# Altium footprint library 220v-12v.PcbLib: 7 footprints
Each footprint in its own frame and in the unit in brackets; x right, y up, seen from the top. Pads: shape width x height; smd on the part's side, far side on the other; paste and mask are expansions set on the pad; w line width, h text height; cw(c..) or ccw(c..) is an arc to the next point about the centre after c.
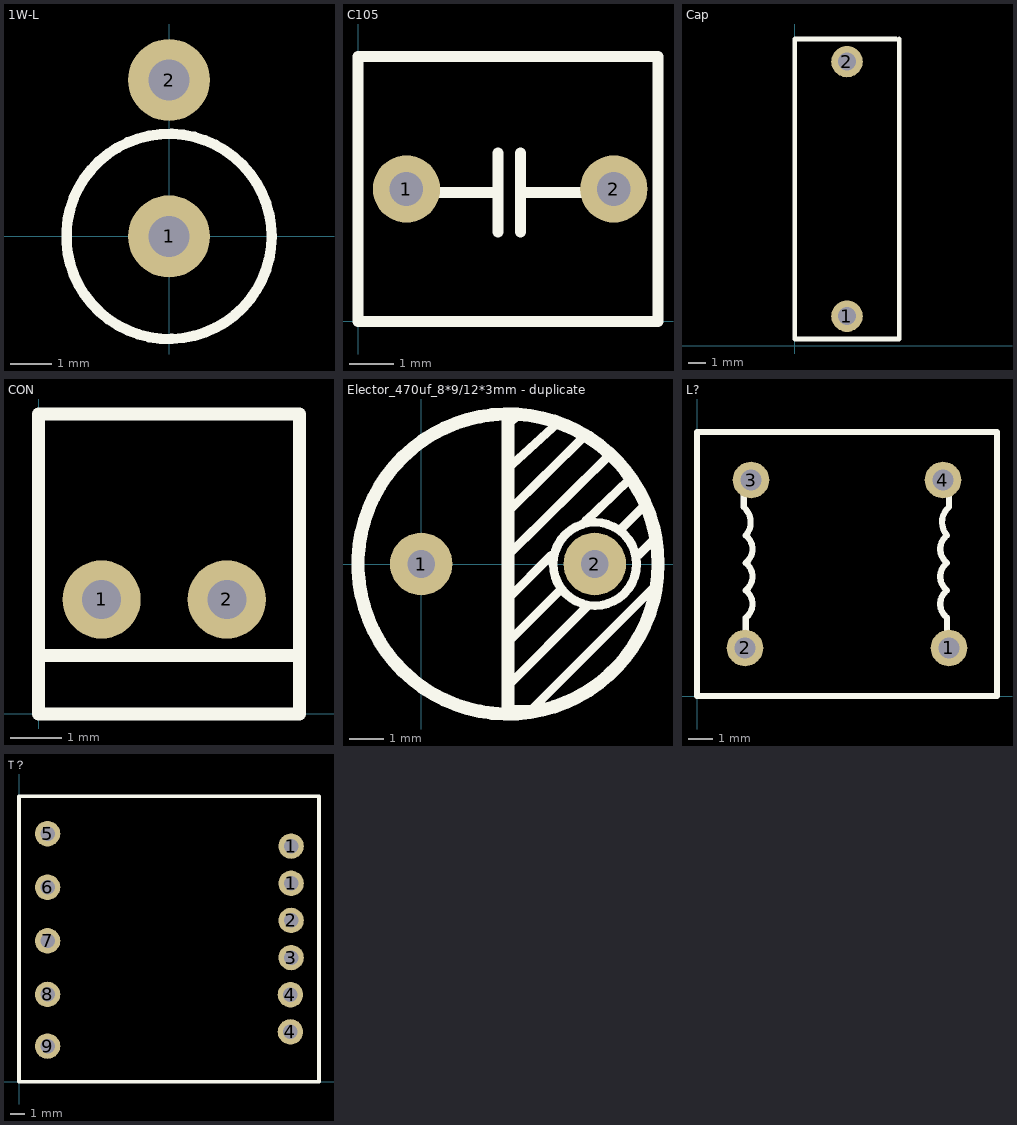
[diagram p0: the footprints below, top view; thin cyan lines are the x and y axes]

## 1W-L [mm]
pads (2):
  round 2 hole 1: 1(0,0) 2(0,3.81)
Top Overlay:
  circle w0.254: c0,0 r2.5

## C105 [mil] "C?"
pads (2):
  round 60 hole 30: 1(43.23,118.11) 2(228.27,118.11)
Top Overlay:
  lines w10: 65,115 125,115 ; 125,80 125,150 ; 145,80 145,150 ; 150,115 205,115 ; 0,0 0,236.22 267.72,236.22 267.72,0 0,0

## Cap [mil] "矫正电容"
pads (2):
  round 70 hole 40: 1(116.14,65.75) 2(116.14,629.92)
Top Overlay:
  lines w10: 225,680 0,680 0,15 232.28,15 232.28,680

## CON [mil]
pads (2):
  round 60 hole 30: 1(48.31,87.8) 2(144.37,87.8)
Top Overlay:
  lines w10: 0,45 200,45 ; 0,0 200,0 200,230 0,230 0,0

## Elector_470uf_8*9/12*3mm - duplicate [mm]
pads (2):
  round 1.8 hole 0.8: 1(0,0) 2(5,0)
Top Overlay:
  circle w0.254: c5,0 r1.2
  circle w0.381: c2.5,0 r4.318
  lines w0.254: 2.5,-3.5 4.75,-1.25 ; 2.5,-2.25 4,-0.75 ; 2.5,-1 3.75,0.25 ; 2.5,0.25 5.461,3.175 ; 2.5,1.5 4.699,3.683 ; 2.5,4 2.806,4.306 ; 2.625,2.875 3.937,4.064 ; 2.667,-4.191 3.175,-4.191 6.731,-0.635 ; 4.75,1.25 5.966,2.416 ; 5.75,1 6.439,1.689 ; 6.25,0.25 6.683,0.683
  lines w0.381: 2.5,-4.231 2.5,4.318
3D body: height 16.53, standoff -3.74, extent -2.551,-5 7.5,5.051

## L? [mil] "9.8UF"
height 629.92
pads (4):
  round 60 hole 35: 1(413.39,78.74) 2(78.74,78.74) 3(88.58,354.33) 4(403.54,354.33)
Top Overlay:
  lines w10: 76.61,374.02 76.61,310 cw(c55,285) 80,263.39 cw(c62.5,240.89) 80,218.39 cw(c62.5,195.89) 80,173.39 cw(c62.5,150.89) 80,128.39 80,62.44 ; 410,62.44 410,128.39 cw(c427.5,150.89) 410,173.39 cw(c427.5,195.89) 410,218.39 cw(c427.5,240.89) 410,263.39 cw(c435,285) 413.39,310 413.39,374.02 ; 0,0 0,433.07 492.13,433.07 492.13,0 0,0

## T？ [mil] "高频变压器"
pads (11):
  round 70 hole 40: 1(750,547.24) 1(750,649.61) 2(750,444.88) 3(750,342.52) 4(748.03,137.8) 4(748.03,240.16) 5(78.74,683.98) 6(78.74,536.34) 7(78.74,388.7) 8(78.74,241.06) 9(78.74,98.43)
Top Overlay:
  lines w10: 0,0 0,787.4 826.77,787.4 826.77,0 0,0